# Altium schematic symbol library LMX8410RGZT.SchLib: 1 symbol
Pins are listed as number, name and electrical type; pins without a type are passive.

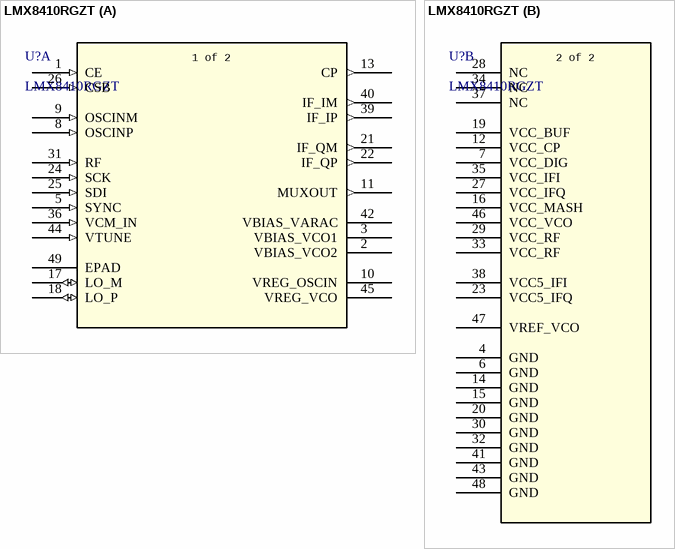
[diagram p0: symbol LMX8410RGZT]

## LMX8410RGZT
designator U?
High-Performance Mixer With Integrated Synthesizer 48-VQFN -40 to 85; Manufacturer_Name: Texas Instruments; Copyright: Copyright (C) 2026 Ultra Librarian. All rights reserved.; Manufacturer_Part_Number: LMX8410RGZT; Datasheet: https://www.ti.com/lit/gpn/lmx8410l; RefDes: RefDes; Type: Type
footprint RGZ48_TEX
part A pins: 1 CE (in), 2 VBIAS_VCO2, 3 VBIAS_VCO1, 5 SYNC (in), 8 OSCINP (in), 9 OSCINM (in), 10 VREG_OSCIN, 11 MUXOUT (out), 13 CP (out), 17 LO_M (io), 18 LO_P (io), 21 IF_QM (out), 22 IF_QP (out), 24 SCK (in), 25 SDI (in), 26 CSB (in), 31 RF (in), 36 VCM_IN (in), 39 IF_IP (out), 40 IF_IM (out), 42 VBIAS_VARAC, 44 VTUNE (in), 45 VREG_VCO, 49 EPAD
part B pins: 4 GND (power), 6 GND (power), 7 VCC_DIG (power), 12 VCC_CP (power), 14 GND (power), 15 GND (power), 16 VCC_MASH (power), 19 VCC_BUF (power), 20 GND (power), 23 VCC5_IFQ (power), 27 VCC_IFQ (power), 28 NC, 29 VCC_RF (power), 30 GND (power), 32 GND (power), 33 VCC_RF (power), 34 NC (power), 35 VCC_IFI (power), 37 NC, 38 VCC5_IFI (power), 41 GND (power), 43 GND (power), 46 VCC_VCO (power), 47 VREF_VCO, 48 GND (power)
part A text: 1 of 2
part B text: 2 of 2